# EAGLE library part NRFL01+ (library BOARDS)
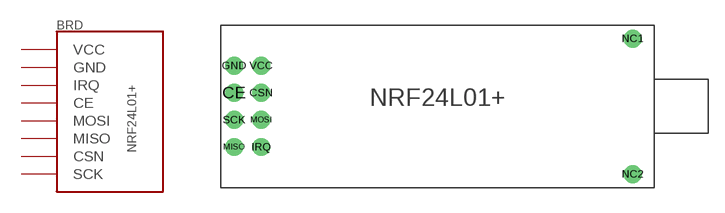
[diagram p0: symbol with the pads of NRF24L01+_PA; footprint NRF24L01+_PA]

Designator prefix BRD

## NRFL01+PA  [NRF24L01+_PA]
CE  CE
CSN  CSN
GND  GND
IRQ  IRQ
MISO  MISO
MOSI  MOSI
SCK  SCK
VCC  VCC

## Footprint NRF24L01+_PA (pad centres in mm)
drill 1 pad 1.676: CE -1.27,1.27; CSN 1.27,1.27; GND -1.27,3.81; IRQ 1.27,-3.81; MISO -1.27,-3.81; MOSI 1.27,-1.27; NC1 36.068,6.35; NC2 36.068,-6.35; SCK -1.27,-1.27; VCC 1.27,3.81